# EAGLE library part AR0234CSSC00SUKA0 (library AR0234CSSC00SUKA0)
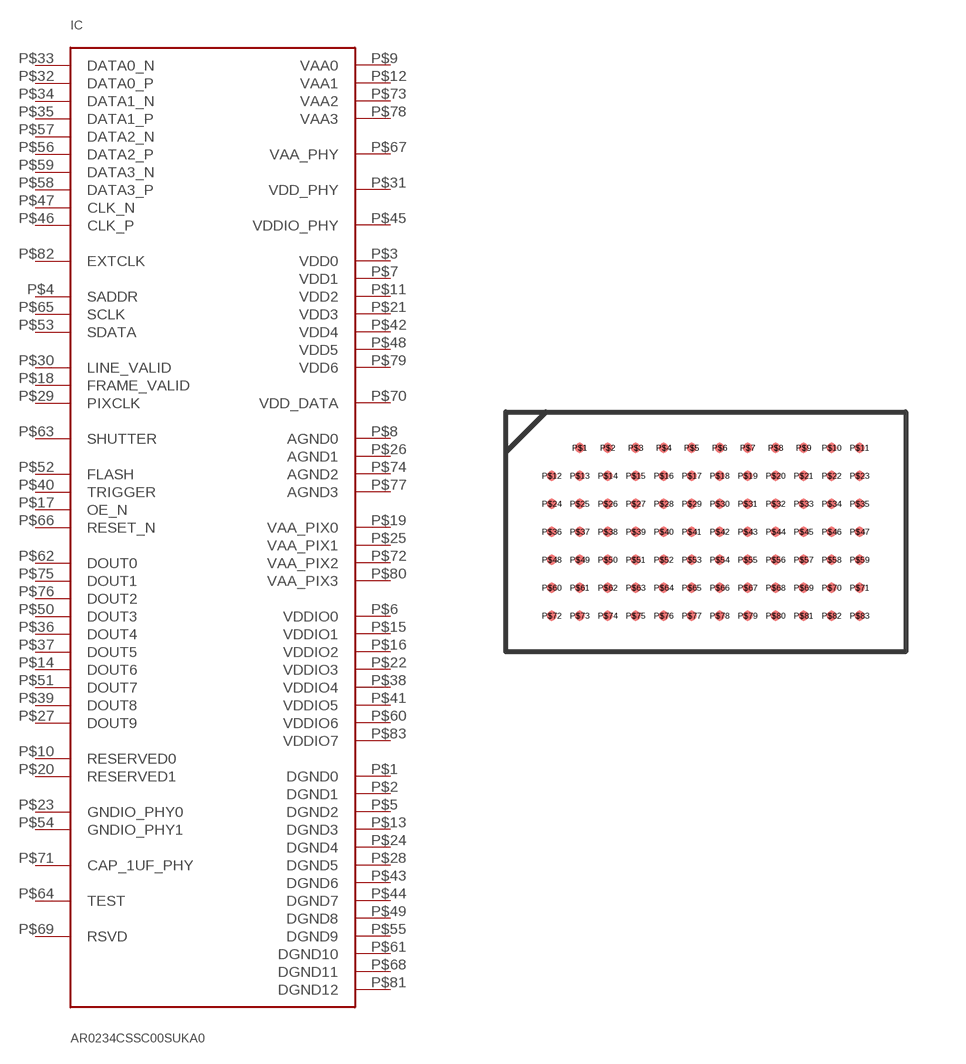
[diagram p0: symbol with the pads of AR0234CSSC00SUKA0; footprint AR0234CSSC00SUKA0]

Designator prefix IC

## AR0234CSSC00SUKA0  [AR0234CSSC00SUKA0]
P$1  DGND0
P$2  DGND1
P$3  VDD0
P$4  SADDR
P$5  DGND2
P$6  VDDIO0
P$7  VDD1
P$8  AGND0
P$9  VAA0
P$10  RESERVED0
P$11  VDD2
P$12  VAA1
P$13  DGND3
P$14  DOUT6
P$15  VDDIO1
P$16  VDDIO2
P$17  OE_N
P$18  FRAME_VALID
P$19  VAA_PIX0
P$20  RESERVED1
P$21  VDD3
P$22  VDDIO3
P$23  GNDIO_PHY0
P$24  DGND4
P$25  VAA_PIX1
P$26  AGND1
P$27  DOUT9
P$28  DGND5
P$29  PIXCLK
P$30  LINE_VALID
P$31  VDD_PHY
P$32  DATA0_P
P$33  DATA0_N
P$34  DATA1_N
P$35  DATA1_P
P$36  DOUT4
P$37  DOUT5
P$38  VDDIO4
P$39  DOUT8
P$40  TRIGGER
P$41  VDDIO5
P$42  VDD4
P$43  DGND6
P$44  DGND7
P$45  VDDIO_PHY
P$46  CLK_P
P$47  CLK_N
P$48  VDD5
P$49  DGND8
P$50  DOUT3
P$51  DOUT7
P$52  FLASH
P$53  SDATA
P$54  GNDIO_PHY1
P$55  DGND9
P$56  DATA2_P
P$57  DATA2_N
P$58  DATA3_P
P$59  DATA3_N
P$60  VDDIO6
P$61  DGND10
P$62  DOUT0
P$63  SHUTTER
P$64  TEST
P$65  SCLK
P$66  RESET_N
P$67  VAA_PHY
P$68  DGND11
P$69  RSVD
P$70  VDD_DATA
P$71  CAP_1UF_PHY
P$72  VAA_PIX2
P$73  VAA2
P$74  AGND2
P$75  DOUT1
P$76  DOUT2
P$77  AGND3
P$78  VAA3
P$79  VDD6
P$80  VAA_PIX3
P$81  DGND12
P$82  EXTCLK
P$83  VDDIO7

## Footprint AR0234CSSC00SUKA0 (pad centres in mm)
smd 0.25 x 0.25: P$1 -3.15,2.1; P$2 -2.45,2.1; P$3 -1.75,2.1; P$4 -1.05,2.1; P$5 -0.35,2.1; P$6 0.35,2.1; P$7 1.05,2.1; P$8 1.75,2.1; P$9 2.45,2.1; P$10 3.15,2.1; P$11 3.85,2.1; P$12 -3.85,1.4; P$13 -3.15,1.4; P$14 -2.45,1.4; P$15 -1.75,1.4; P$16 -1.05,1.4; P$17 -0.35,1.4; P$18 0.35,1.4; P$19 1.05,1.4; P$20 1.75,1.4; P$21 2.45,1.4; P$22 3.15,1.4; P$23 3.85,1.4; P$24 -3.85,0.7; P$25 -3.15,0.7; P$26 -2.45,0.7; P$27 -1.75,0.7; P$28 -1.05,0.7; P$29 -0.35,0.7; P$30 0.35,0.7; P$31 1.05,0.7; P$32 1.75,0.7; P$33 2.45,0.7; P$34 3.15,0.7; P$35 3.85,0.7; P$36 -3.85,0; P$37 -3.15,0; P$38 -2.45,0; P$39 -1.75,0; P$40 -1.05,0; P$41 -0.35,0; P$42 0.35,0; P$43 1.05,0; P$44 1.75,0; P$45 2.45,0; P$46 3.15,0; P$47 3.85,0; P$48 -3.85,-0.7; P$49 -3.15,-0.7; P$50 -2.45,-0.7; P$51 -1.75,-0.7; P$52 -1.05,-0.7; P$53 -0.35,-0.7; P$54 0.35,-0.7; P$55 1.05,-0.7; P$56 1.75,-0.7; P$57 2.45,-0.7; P$58 3.15,-0.7; P$59 3.85,-0.7; P$60 -3.85,-1.4; P$61 -3.15,-1.4; P$62 -2.45,-1.4; P$63 -1.75,-1.4; P$64 -1.05,-1.4; P$65 -0.35,-1.4; P$66 0.35,-1.4; P$67 1.05,-1.4; P$68 1.75,-1.4; P$69 2.45,-1.4; P$70 3.15,-1.4; P$71 3.85,-1.4; P$72 -3.85,-2.1; P$73 -3.15,-2.1; P$74 -2.45,-2.1; P$75 -1.75,-2.1; P$76 -1.05,-2.1; P$77 -0.35,-2.1; P$78 0.35,-2.1; P$79 1.05,-2.1; P$80 1.75,-2.1; P$81 2.45,-2.1; P$82 3.15,-2.1; P$83 3.85,-2.1